# Altium schematic symbol library LQH3NPZ100MJRL.SchLib: 1 symbol
Pins are listed as number, name and electrical type; pins without a type are passive.

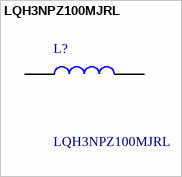
[diagram p0: symbol LQH3NPZ100MJRL]

## LQH3NPZ100MJRL
designator L?
LQH3NPZ_JR Series Inductor 10uH +/-20% 1212 (3030); Manufacturer_Name: Murata Electronics; Geometry.Height: 1.2mm; Mouser Part Number: 81-LQH3NPZ100MJRL; Mouser Price/Stock: https://www.mouser.co.uk/ProductDetail/Murata-Electronics/LQH3NPZ100MJRL?qs=Ey7%2FXF42M3e2EdJiitgVwQ%3D%3D; Manufacturer_Part_Number: LQH3NPZ100MJRL; Datasheet Link: https://search.murata.co.jp/Ceramy/image/img/P02/JELF243A-9131.pdf
footprint LQH3NPN100MJRL
pins: 1, 2